# EAGLE library part ECG003 (library NewSDR)
InGaP HBT Gain Block
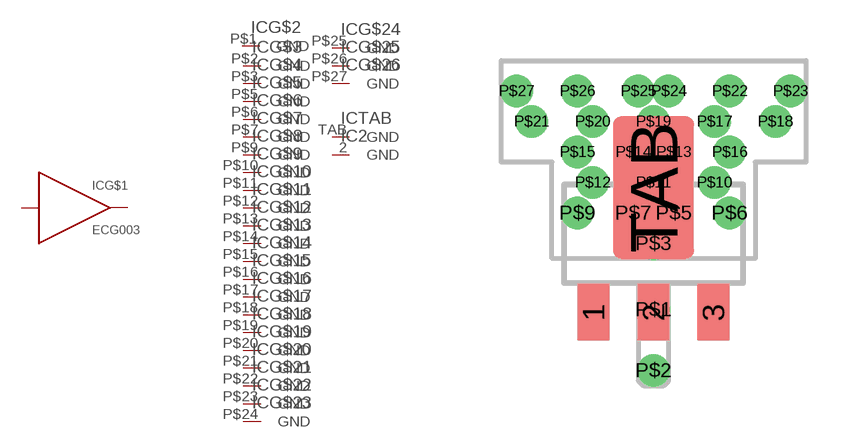
[diagram p110: symbol with the pads of SOT89_GP1; footprint SOT89_GP1]

Designator prefix IC; gates G$2=PIN_GND G$3=PIN_GND G$4=PIN_GND G$5=PIN_GND G$6=PIN_GND G$7=PIN_GND G$8=PIN_GND G$9=PIN_GND G$10=PIN_GND G$11=PIN_GND G$12=PIN_GND G$13=PIN_GND G$14=PIN_GND G$15=PIN_GND G$16=PIN_GND G$17=PIN_GND G$18=PIN_GND G$19=PIN_GND G$20=PIN_GND G$21=PIN_GND G$22=PIN_GND G$23=PIN_GND G$24=PIN_GND G$25=PIN_GND G$26=PIN_GND G$1=AMP TAB=PIN_GND 2=PIN_GND

## ECG003  [SOT89_GP1]
1  G$1:1  in
2  2:GND  pwr
3  G$1:3  out
P$1  G$2:GND  pwr
P$2  G$3:GND  pwr
P$3  G$4:GND  pwr
P$5  G$5:GND  pwr
P$6  G$6:GND  pwr
P$7  G$7:GND  pwr
P$9  G$8:GND  pwr
P$10  G$9:GND  pwr
P$11  G$10:GND  pwr
P$12  G$11:GND  pwr
P$13  G$12:GND  pwr
P$14  G$13:GND  pwr
P$15  G$14:GND  pwr
P$16  G$15:GND  pwr
P$17  G$16:GND  pwr
P$18  G$17:GND  pwr
P$19  G$18:GND  pwr
P$20  G$19:GND  pwr
P$21  G$20:GND  pwr
P$22  G$21:GND  pwr
P$23  G$22:GND  pwr
P$24  G$23:GND  pwr
P$25  G$24:GND  pwr
P$26  G$25:GND  pwr
P$27  G$26:GND  pwr
TAB  TAB:GND  pwr

## Footprint SOT89_GP1 (pad centres in mm)
Special footprint for ECG003
smd 0.8 x 1.4: 1 -1.499,-2.108; 2 0,-2.108; 3 1.499,-2.108
drill 0.305 pad 0.406: P$1 0,-2.032; P$2 0,-3.556; P$3 0,-0.381; P$5 0.508,0.381; P$6 1.905,0.381; P$7 -0.508,0.381; P$9 -1.905,0.381; P$10 1.524,1.143; P$11 0,1.143; P$12 -1.524,1.143; P$13 0.508,1.905; P$14 -0.508,1.905; P$15 -1.905,1.905; P$16 1.905,1.905; P$17 1.524,2.667; P$18 3.048,2.667; P$19 0,2.667; P$20 -1.524,2.667; P$21 -3.048,2.667; P$22 1.905,3.429; P$23 3.429,3.429; P$24 0.381,3.429; P$25 -0.381,3.429; P$26 -1.905,3.429; P$27 -3.429,3.429
smd 2.032 x 3.556: TAB 0,1.016